# Altium integrated library FPGA Generic.IntLib: 1651 symbols (part 4 of 20)
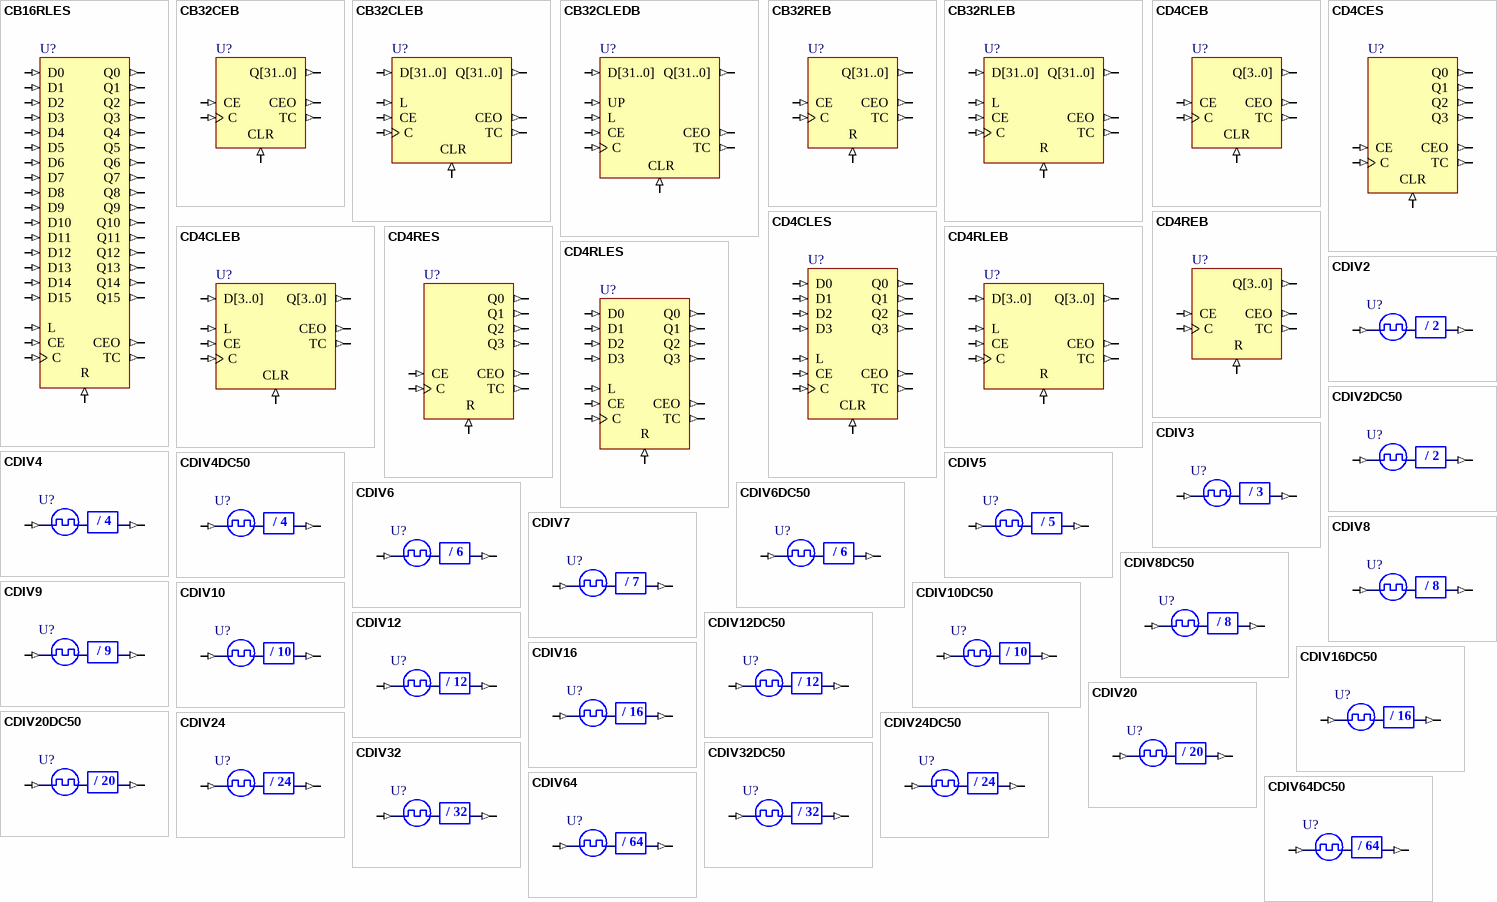
[diagram p46: symbols CB16RLES to CDIV64DC50]

## CD4RES
designator U?
Cascadable BCD Counter with Clock Enable and Synchronous Reset, Single Pin Version; XilinxEquivalent: CD4RE; ClockTrigger: Rising; Enable: High; PortSize: 4; ArchiveName: GENERIC; VHDLIB_SIM: GENERIC_LIB; Published: 29-Jan-2004; Publisher: Altium Limited; LastRevisionNo: 1.00.00; HelpURL: CR0118 FPGA Generic Library Guide.pdf#page=140; ComponentLink1URL: CR0130 FPGA Counter Resource Usage.pdf#page=53; ComponentLink1Description: Core &Resource Usage; FunctionalClass: Counter; SubClass: BCD; Reset: Synchronous; PortType: Single Pin Version
pins: C (in), CE (in), CEO (out), Q0 (out), Q1 (out), Q2 (out), Q3 (out), R (in), TC (out)

## CD4RLEB
designator U?
Loadable Cascadable BCD Counter with Clock Enable and Synchronous Reset, Bus Version; ClockTrigger: Rising; Enable: High; Loadable: True; PortSize: 4; ArchiveName: GENERIC; VHDLIB_SIM: GENERIC_LIB; Published: 29-Jan-2004; Publisher: Altium Limited; LastRevisionNo: 1.00.00; HelpURL: CR0118 FPGA Generic Library Guide.pdf#page=141; ComponentLink1URL: CR0130 FPGA Counter Resource Usage.pdf#page=54; ComponentLink1Description: Core &Resource Usage; FunctionalClass: Counter; SubClass: BCD; Reset: Synchronous; PortType: Bus Version
pins: C (in), CE (in), CEO (out), D[3..0] (in), L (in), Q[3..0] (out), R (in), TC (out)

## CD4RLES
designator U?
Loadable Cascadable BCD Counter with Clock Enable and Synchronous Reset, Single Pin Version; XilinxEquivalent: CD4RLE; ClockTrigger: Rising; Enable: High; Loadable: True; PortSize: 4; ArchiveName: GENERIC; VHDLIB_SIM: GENERIC_LIB; Published: 29-Jan-2004; Publisher: Altium Limited; LastRevisionNo: 1.00.00; HelpURL: CR0118 FPGA Generic Library Guide.pdf#page=141; ComponentLink1URL: CR0130 FPGA Counter Resource Usage.pdf#page=55; ComponentLink1Description: Core &Resource Usage; FunctionalClass: Counter; SubClass: BCD; Reset: Synchronous; PortType: Single Pin Version
pins: C (in), CE (in), CEO (out), D0 (in), D1 (in), D2 (in), D3 (in), L (in), Q0 (out), Q1 (out), Q2 (out), Q3 (out), R (in), TC (out)

## CDIV2
designator U?
Clock Divider by 2; DivisorRate: 2; ArchiveName: GENERIC; VHDLIB_SIM: GENERIC_LIB; Published: 29-Jan-2004; Publisher: Altium Limited; LastRevisionNo: 1.00.00; HelpURL: CR0118 FPGA Generic Library Guide.pdf#page=142; ComponentLink1URL: CR0127 FPGA Clock Divider Resource Usage.pdf#page=2; ComponentLink1Description: Core &Resource Usage; FunctionalClass: Clock Divider
pins: CLKDV (out), CLKIN (in)
text: / 2

## CDIV2DC50
designator U?
Clock Divider by 2 with 50% Duty Cycle Output; XilinxEquivalent: CLK_DIV2; DivisorRate: 2; DutyCycle: 50; ArchiveName: GENERIC; VHDLIB_SIM: GENERIC_LIB; Published: 29-Jan-2004; Publisher: Altium Limited; LastRevisionNo: 1.00.00; HelpURL: CR0118 FPGA Generic Library Guide.pdf#page=143; ComponentLink1URL: CR0127 FPGA Clock Divider Resource Usage.pdf#page=3; ComponentLink1Description: Core &Resource Usage; FunctionalClass: Clock Divider
pins: CLKDV (out), CLKIN (in)
text: / 2

## CDIV3
designator U?
Clock Divider by 3; DivisorRate: 3; ArchiveName: GENERIC; VHDLIB_SIM: GENERIC_LIB; Published: 29-Jan-2004; Publisher: Altium Limited; LastRevisionNo: 1.00.00; HelpURL: CR0118 FPGA Generic Library Guide.pdf#page=142; ComponentLink1URL: CR0127 FPGA Clock Divider Resource Usage.pdf#page=4; ComponentLink1Description: Core &Resource Usage; FunctionalClass: Clock Divider
pins: CLKDV (out), CLKIN (in)
text: / 3

## CDIV4
designator U?
Clock Divider by 4; DivisorRate: 4; ArchiveName: GENERIC; VHDLIB_SIM: GENERIC_LIB; Published: 29-Jan-2004; Publisher: Altium Limited; LastRevisionNo: 1.00.00; HelpURL: CR0118 FPGA Generic Library Guide.pdf#page=142; ComponentLink1URL: CR0127 FPGA Clock Divider Resource Usage.pdf#page=5; ComponentLink1Description: Core &Resource Usage; FunctionalClass: Clock Divider
pins: CLKDV (out), CLKIN (in)
text: / 4

## CDIV4DC50
designator U?
Clock Divider by 4 with 50% Duty Cycle Output; XilinxEquivalent: CLK_DIV4; DivisorRate: 4; DutyCycle: 50; ArchiveName: GENERIC; VHDLIB_SIM: GENERIC_LIB; Published: 29-Jan-2004; Publisher: Altium Limited; LastRevisionNo: 1.00.00; HelpURL: CR0118 FPGA Generic Library Guide.pdf#page=143; ComponentLink1URL: CR0127 FPGA Clock Divider Resource Usage.pdf#page=6; ComponentLink1Description: Core &Resource Usage; FunctionalClass: Clock Divider
pins: CLKDV (out), CLKIN (in)
text: / 4

## CDIV5
designator U?
Clock Divider by 5; DivisorRate: 5; ArchiveName: GENERIC; VHDLIB_SIM: GENERIC_LIB; Published: 29-Jan-2004; Publisher: Altium Limited; LastRevisionNo: 1.00.00; HelpURL: CR0118 FPGA Generic Library Guide.pdf#page=142; ComponentLink1URL: CR0127 FPGA Clock Divider Resource Usage.pdf#page=7; ComponentLink1Description: Core &Resource Usage; FunctionalClass: Clock Divider
pins: CLKDV (out), CLKIN (in)
text: / 5

## CDIV6
designator U?
Clock Divider by 6; DivisorRate: 6; ArchiveName: GENERIC; VHDLIB_SIM: GENERIC_LIB; Published: 29-Jan-2004; Publisher: Altium Limited; LastRevisionNo: 1.00.00; HelpURL: CR0118 FPGA Generic Library Guide.pdf#page=142; ComponentLink1URL: CR0127 FPGA Clock Divider Resource Usage.pdf#page=8; ComponentLink1Description: Core &Resource Usage; FunctionalClass: Clock Divider
pins: CLKDV (out), CLKIN (in)
text: / 6

## CDIV6DC50
designator U?
Clock Divider by 6 with 50% Duty Cycle Output; XilinxEquivalent: CLK_DIV6; DivisorRate: 6; DutyCycle: 50; ArchiveName: GENERIC; VHDLIB_SIM: GENERIC_LIB; Published: 29-Jan-2004; Publisher: Altium Limited; LastRevisionNo: 1.00.00; HelpURL: CR0118 FPGA Generic Library Guide.pdf#page=143; ComponentLink1URL: CR0127 FPGA Clock Divider Resource Usage.pdf#page=9; ComponentLink1Description: Core &Resource Usage; FunctionalClass: Clock Divider
pins: CLKDV (out), CLKIN (in)
text: / 6

## CDIV7
designator U?
Clock Divider by 7; DivisorRate: 7; ArchiveName: GENERIC; VHDLIB_SIM: GENERIC_LIB; Published: 29-Jan-2004; Publisher: Altium Limited; LastRevisionNo: 1.00.00; HelpURL: CR0118 FPGA Generic Library Guide.pdf#page=142; ComponentLink1URL: CR0127 FPGA Clock Divider Resource Usage.pdf#page=10; ComponentLink1Description: Core &Resource Usage; FunctionalClass: Clock Divider
pins: CLKDV (out), CLKIN (in)
text: / 7

## CDIV8
designator U?
Clock Divider by 8; DivisorRate: 8; ArchiveName: GENERIC; VHDLIB_SIM: GENERIC_LIB; Published: 29-Jan-2004; Publisher: Altium Limited; LastRevisionNo: 1.00.00; HelpURL: CR0118 FPGA Generic Library Guide.pdf#page=142; ComponentLink1URL: CR0127 FPGA Clock Divider Resource Usage.pdf#page=11; ComponentLink1Description: Core &Resource Usage; FunctionalClass: Clock Divider
pins: CLKDV (out), CLKIN (in)
text: / 8

## CDIV8DC50
designator U?
Clock Divider by 8 with 50% Duty Cycle Output; XilinxEquivalent: CLK_DIV8; DivisorRate: 8; DutyCycle: 50; ArchiveName: GENERIC; VHDLIB_SIM: GENERIC_LIB; Published: 29-Jan-2004; Publisher: Altium Limited; LastRevisionNo: 1.00.00; HelpURL: CR0118 FPGA Generic Library Guide.pdf#page=143; ComponentLink1URL: CR0127 FPGA Clock Divider Resource Usage.pdf#page=12; ComponentLink1Description: Core &Resource Usage; FunctionalClass: Clock Divider
pins: CLKDV (out), CLKIN (in)
text: / 8

## CDIV9
designator U?
Clock Divider by 9; DivisorRate: 9; ArchiveName: GENERIC; VHDLIB_SIM: GENERIC_LIB; Published: 29-Jan-2004; Publisher: Altium Limited; LastRevisionNo: 1.00.00; HelpURL: CR0118 FPGA Generic Library Guide.pdf#page=142; ComponentLink1URL: CR0127 FPGA Clock Divider Resource Usage.pdf#page=13; ComponentLink1Description: Core &Resource Usage; FunctionalClass: Clock Divider
pins: CLKDV (out), CLKIN (in)
text: / 9

## CDIV10
designator U?
Clock Divider by 10; DivisorRate: 10; ArchiveName: GENERIC; VHDLIB_SIM: GENERIC_LIB; Published: 29-Jan-2004; Publisher: Altium Limited; LastRevisionNo: 1.00.00; HelpURL: CR0118 FPGA Generic Library Guide.pdf#page=142; ComponentLink1URL: CR0127 FPGA Clock Divider Resource Usage.pdf#page=14; ComponentLink1Description: Core &Resource Usage; FunctionalClass: Clock Divider
pins: CLKDV (out), CLKIN (in)
text: / 10

## CDIV10DC50
designator U?
Clock Divider by 10 with 50% Duty Cycle Output; XilinxEquivalent: CLK_DIV10; DivisorRate: 10; DutyCycle: 50; ArchiveName: GENERIC; VHDLIB_SIM: GENERIC_LIB; Published: 29-Jan-2004; Publisher: Altium Limited; LastRevisionNo: 1.00.00; HelpURL: CR0118 FPGA Generic Library Guide.pdf#page=143; ComponentLink1URL: CR0127 FPGA Clock Divider Resource Usage.pdf#page=15; ComponentLink1Description: Core &Resource Usage; FunctionalClass: Clock Divider
pins: CLKDV (out), CLKIN (in)
text: / 10

## CDIV12
designator U?
Clock Divider by 12; DivisorRate: 12; ArchiveName: GENERIC; VHDLIB_SIM: GENERIC_LIB; Published: 29-Jan-2004; Publisher: Altium Limited; LastRevisionNo: 1.00.00; HelpURL: CR0118 FPGA Generic Library Guide.pdf#page=142; ComponentLink1URL: CR0127 FPGA Clock Divider Resource Usage.pdf#page=16; ComponentLink1Description: Core &Resource Usage; FunctionalClass: Clock Divider
pins: CLKDV (out), CLKIN (in)
text: / 12

## CDIV12DC50
designator U?
Clock Divider by 12 with 50% Duty Cycle Output; XilinxEquivalent: CLK_DIV12; DivisorRate: 12; DutyCycle: 50; ArchiveName: GENERIC; VHDLIB_SIM: GENERIC_LIB; Published: 29-Jan-2004; Publisher: Altium Limited; LastRevisionNo: 1.00.00; HelpURL: CR0118 FPGA Generic Library Guide.pdf#page=143; ComponentLink1URL: CR0127 FPGA Clock Divider Resource Usage.pdf#page=17; ComponentLink1Description: Core &Resource Usage; FunctionalClass: Clock Divider
pins: CLKDV (out), CLKIN (in)
text: / 12

## CDIV16
designator U?
Clock Divider by 16; DivisorRate: 16; ArchiveName: GENERIC; VHDLIB_SIM: GENERIC_LIB; Published: 29-Jan-2004; Publisher: Altium Limited; LastRevisionNo: 1.00.00; HelpURL: CR0118 FPGA Generic Library Guide.pdf#page=142; ComponentLink1URL: CR0127 FPGA Clock Divider Resource Usage.pdf#page=18; ComponentLink1Description: Core &Resource Usage; FunctionalClass: Clock Divider
pins: CLKDV (out), CLKIN (in)
text: / 16

## CDIV16DC50
designator U?
Clock Divider by 16 with 50% Duty Cycle Output; XilinxEquivalent: CLK_DIV16; DivisorRate: 16; DutyCycle: 50; ArchiveName: GENERIC; VHDLIB_SIM: GENERIC_LIB; Published: 29-Jan-2004; Publisher: Altium Limited; LastRevisionNo: 1.00.00; HelpURL: CR0118 FPGA Generic Library Guide.pdf#page=143; ComponentLink1URL: CR0127 FPGA Clock Divider Resource Usage.pdf#page=19; ComponentLink1Description: Core &Resource Usage; FunctionalClass: Clock Divider
pins: CLKDV (out), CLKIN (in)
text: / 16

## CDIV20
designator U?
Clock Divider by 20; DivisorRate: 20; ArchiveName: GENERIC; VHDLIB_SIM: GENERIC_LIB; Published: 29-Jan-2004; Publisher: Altium Limited; LastRevisionNo: 1.00.00; HelpURL: CR0118 FPGA Generic Library Guide.pdf#page=142; ComponentLink1URL: CR0127 FPGA Clock Divider Resource Usage.pdf#page=20; ComponentLink1Description: Core &Resource Usage; FunctionalClass: Clock Divider
pins: CLKDV (out), CLKIN (in)
text: / 20

## CDIV20DC50
designator U?
Clock Divider by 20 with 50% Duty Cycle Output; DivisorRate: 20; DutyCycle: 50; ArchiveName: GENERIC; VHDLIB_SIM: GENERIC_LIB; Published: 29-Jan-2004; Publisher: Altium Limited; LastRevisionNo: 1.00.00; HelpURL: CR0118 FPGA Generic Library Guide.pdf#page=143; ComponentLink1URL: CR0127 FPGA Clock Divider Resource Usage.pdf#page=21; ComponentLink1Description: Core &Resource Usage; FunctionalClass: Clock Divider
pins: CLKDV (out), CLKIN (in)
text: / 20

## CDIV24
designator U?
Clock Divider by 24; DivisorRate: 24; ArchiveName: GENERIC; VHDLIB_SIM: GENERIC_LIB; Published: 29-Jan-2004; Publisher: Altium Limited; LastRevisionNo: 1.00.00; HelpURL: CR0118 FPGA Generic Library Guide.pdf#page=142; ComponentLink1URL: CR0127 FPGA Clock Divider Resource Usage.pdf#page=22; ComponentLink1Description: Core &Resource Usage; FunctionalClass: Clock Divider
pins: CLKDV (out), CLKIN (in)
text: / 24

## CDIV24DC50
designator U?
Clock Divider by 24 with 50% Duty Cycle Output; DivisorRate: 24; DutyCycle: 50; ArchiveName: GENERIC; VHDLIB_SIM: GENERIC_LIB; Published: 29-Jan-2004; Publisher: Altium Limited; LastRevisionNo: 1.00.00; HelpURL: CR0118 FPGA Generic Library Guide.pdf#page=143; ComponentLink1URL: CR0127 FPGA Clock Divider Resource Usage.pdf#page=23; ComponentLink1Description: Core &Resource Usage; FunctionalClass: Clock Divider
pins: CLKDV (out), CLKIN (in)
text: / 24

## CDIV32
designator U?
Clock Divider by 32; DivisorRate: 32; ArchiveName: GENERIC; VHDLIB_SIM: GENERIC_LIB; Published: 29-Jan-2004; Publisher: Altium Limited; LastRevisionNo: 1.00.00; HelpURL: CR0118 FPGA Generic Library Guide.pdf#page=142; ComponentLink1URL: CR0127 FPGA Clock Divider Resource Usage.pdf#page=24; ComponentLink1Description: Core &Resource Usage; FunctionalClass: Clock Divider
pins: CLKDV (out), CLKIN (in)
text: / 32

## CDIV32DC50
designator U?
Clock Divider by 32 with 50% Duty Cycle Output; DivisorRate: 32; DutyCycle: 50; ArchiveName: GENERIC; VHDLIB_SIM: GENERIC_LIB; Published: 29-Jan-2004; Publisher: Altium Limited; LastRevisionNo: 1.00.00; HelpURL: CR0118 FPGA Generic Library Guide.pdf#page=143; ComponentLink1URL: CR0127 FPGA Clock Divider Resource Usage.pdf#page=25; ComponentLink1Description: Core &Resource Usage; FunctionalClass: Clock Divider
pins: CLKDV (out), CLKIN (in)
text: / 32

## CDIV64
designator U?
Clock Divider by 64; DivisorRate: 64; ArchiveName: GENERIC; VHDLIB_SIM: GENERIC_LIB; Published: 29-Jan-2004; Publisher: Altium Limited; LastRevisionNo: 1.00.00; HelpURL: CR0118 FPGA Generic Library Guide.pdf#page=142; ComponentLink1URL: CR0127 FPGA Clock Divider Resource Usage.pdf#page=26; ComponentLink1Description: Core &Resource Usage; FunctionalClass: Clock Divider
pins: CLKDV (out), CLKIN (in)
text: / 64

## CDIV64DC50
designator U?
Clock Divider by 64 with 50% Duty Cycle Output; DivisorRate: 64; DutyCycle: 50; ArchiveName: GENERIC; VHDLIB_SIM: GENERIC_LIB; Published: 29-Jan-2004; Publisher: Altium Limited; LastRevisionNo: 1.00.00; HelpURL: CR0118 FPGA Generic Library Guide.pdf#page=143; ComponentLink1URL: CR0127 FPGA Clock Divider Resource Usage.pdf#page=27; ComponentLink1Description: Core &Resource Usage; FunctionalClass: Clock Divider
pins: CLKDV (out), CLKIN (in)
text: / 64

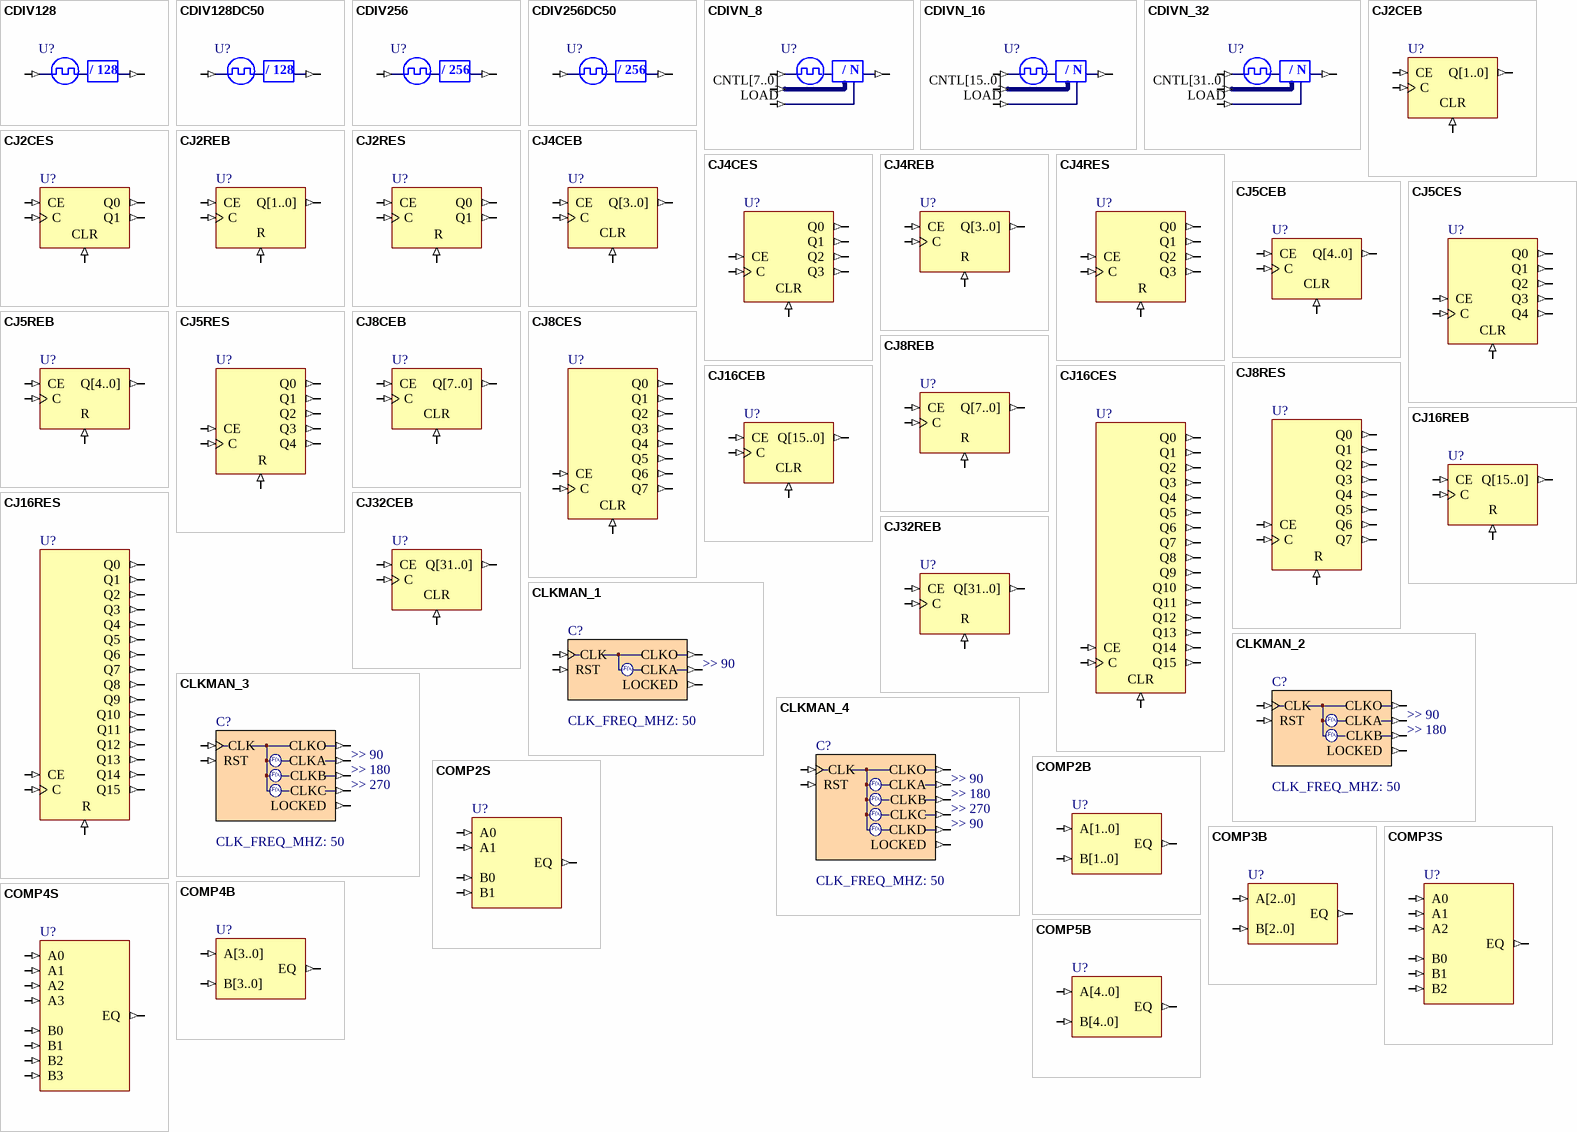
[diagram p7: symbols CDIV128 to COMP5B]

## CDIV128
designator U?
Clock Divider by 128; DivisorRate: 128; ArchiveName: GENERIC; VHDLIB_SIM: GENERIC_LIB; Published: 29-Jan-2004; Publisher: Altium Limited; LastRevisionNo: 1.00.00; HelpURL: CR0118 FPGA Generic Library Guide.pdf#page=142; ComponentLink1URL: CR0127 FPGA Clock Divider Resource Usage.pdf#page=28; ComponentLink1Description: Core &Resource Usage; FunctionalClass: Clock Divider
pins: CLKDV (out), CLKIN (in)
text: / 128

## CDIV128DC50
designator U?
Clock Divider by 128 with 50% Duty Cycle Output; DivisorRate: 128; DutyCycle: 50; ArchiveName: GENERIC; VHDLIB_SIM: GENERIC_LIB; Published: 29-Jan-2004; Publisher: Altium Limited; LastRevisionNo: 1.00.00; HelpURL: CR0118 FPGA Generic Library Guide.pdf#page=143; ComponentLink1URL: CR0127 FPGA Clock Divider Resource Usage.pdf#page=29; ComponentLink1Description: Core &Resource Usage; FunctionalClass: Clock Divider
pins: CLKDV (out), CLKIN (in)
text: / 128

## CDIV256
designator U?
Clock Divider by 256; DivisorRate: 256; ArchiveName: GENERIC; VHDLIB_SIM: GENERIC_LIB; Published: 29-Jan-2004; Publisher: Altium Limited; LastRevisionNo: 1.00.00; HelpURL: CR0118 FPGA Generic Library Guide.pdf#page=142; ComponentLink1URL: CR0127 FPGA Clock Divider Resource Usage.pdf#page=30; ComponentLink1Description: Core &Resource Usage; FunctionalClass: Clock Divider
pins: CLKDV (out), CLKIN (in)
text: / 256

## CDIV256DC50
designator U?
Clock Divider by 256 with 50% Duty Cycle Output; DivisorRate: 256; DutyCycle: 50; ArchiveName: GENERIC; VHDLIB_SIM: GENERIC_LIB; Published: 29-Jan-2004; Publisher: Altium Limited; LastRevisionNo: 1.00.00; HelpURL: CR0118 FPGA Generic Library Guide.pdf#page=143; ComponentLink1URL: CR0127 FPGA Clock Divider Resource Usage.pdf#page=31; ComponentLink1Description: Core &Resource Usage; FunctionalClass: Clock Divider
pins: CLKDV (out), CLKIN (in)
text: / 256

## CDIVN_8
designator U?
8-Bit Programmable Clock Divider; PortSize: 8; ArchiveName: GENERIC; VHDLIB_SIM: GENERIC_LIB; Published: 29-Jan-2004; Publisher: Altium Limited; LastRevisionNo: 1.00.00; HelpURL: CR0118 FPGA Generic Library Guide.pdf#page=144; ComponentLink1URL: CR0127 FPGA Clock Divider Resource Usage.pdf#page=32; ComponentLink1Description: Core &Resource Usage; FunctionalClass: Clock Divider; DivisorRate: Programmable
pins: CLKDV (out), CLKIN (in), CNTL[7..0] (in), LOAD (in)
text: / N

## CDIVN_16
designator U?
16-Bit Programmable Clock Divider; PortSize: 16; ArchiveName: GENERIC; VHDLIB_SIM: GENERIC_LIB; Published: 29-Jan-2004; Publisher: Altium Limited; LastRevisionNo: 1.00.00; HelpURL: CR0118 FPGA Generic Library Guide.pdf#page=144; ComponentLink1URL: CR0127 FPGA Clock Divider Resource Usage.pdf#page=33; ComponentLink1Description: Core &Resource Usage; FunctionalClass: Clock Divider; DivisorRate: Programmable
pins: CLKDV (out), CLKIN (in), CNTL[15..0] (in), LOAD (in)
text: / N

## CDIVN_32
designator U?
32-Bit Programmable Clock Divider; PortSize: 32; ArchiveName: GENERIC; VHDLIB_SIM: GENERIC_LIB; Published: 29-Jan-2004; Publisher: Altium Limited; LastRevisionNo: 1.00.00; HelpURL: CR0118 FPGA Generic Library Guide.pdf#page=144; ComponentLink1URL: CR0127 FPGA Clock Divider Resource Usage.pdf#page=34; ComponentLink1Description: Core &Resource Usage; FunctionalClass: Clock Divider; DivisorRate: Programmable
pins: CLKDV (out), CLKIN (in), CNTL[31..0] (in), LOAD (in)
text: / N

## CJ2CEB
designator U?
2-Bit Johnson Counter with Clock Enable and Asynchronous Clear, Bus Version; ClockTrigger: Rising; Enable: High; PortSize: 2; ArchiveName: GENERIC; VHDLIB_SIM: GENERIC_LIB; Published: 29-Jan-2004; Publisher: Altium Limited; LastRevisionNo: 1.00.00; HelpURL: CR0118 FPGA Generic Library Guide.pdf#page=145; ComponentLink1URL: CR0130 FPGA Counter Resource Usage.pdf#page=56; ComponentLink1Description: Core &Resource Usage; FunctionalClass: Counter; SubClass: Johnson; Reset: Asynchronous; PortType: Bus Version
pins: C (in), CE (in), CLR (in), Q[1..0] (out)

## CJ2CES
designator U?
2-Bit Johnson Counter with Clock Enable and Asynchronous Clear, Single Pin Version; ClockTrigger: Rising; Enable: High; PortSize: 2; ArchiveName: GENERIC; VHDLIB_SIM: GENERIC_LIB; Published: 29-Jan-2004; Publisher: Altium Limited; LastRevisionNo: 1.00.00; HelpURL: CR0118 FPGA Generic Library Guide.pdf#page=145; ComponentLink1URL: CR0130 FPGA Counter Resource Usage.pdf#page=57; ComponentLink1Description: Core &Resource Usage; FunctionalClass: Counter; SubClass: Johnson; Reset: Asynchronous; PortType: Single Pin Version
pins: C (in), CE (in), CLR (in), Q0 (out), Q1 (out)

## CJ2REB
designator U?
2-Bit Johnson Counter with Clock Enable and Synchronous Reset, Bus Version; ClockTrigger: Rising; Enable: High; PortSize: 2; ArchiveName: GENERIC; VHDLIB_SIM: GENERIC_LIB; Published: 29-Jan-2004; Publisher: Altium Limited; LastRevisionNo: 1.00.00; HelpURL: CR0118 FPGA Generic Library Guide.pdf#page=147; ComponentLink1URL: CR0130 FPGA Counter Resource Usage.pdf#page=58; ComponentLink1Description: Core &Resource Usage; FunctionalClass: Counter; SubClass: Johnson; Reset: Synchronous; PortType: Bus Version
pins: C (in), CE (in), Q[1..0] (out), R (in)

## CJ2RES
designator U?
2-Bit Johnson Counter with Clock Enable and Synchronous Reset, Single Pin Version; ClockTrigger: Rising; Enable: High; PortSize: 2; ArchiveName: GENERIC; VHDLIB_SIM: GENERIC_LIB; Published: 29-Jan-2004; Publisher: Altium Limited; LastRevisionNo: 1.00.00; HelpURL: CR0118 FPGA Generic Library Guide.pdf#page=147; ComponentLink1URL: CR0130 FPGA Counter Resource Usage.pdf#page=59; ComponentLink1Description: Core &Resource Usage; FunctionalClass: Counter; SubClass: Johnson; Reset: Synchronous; PortType: Single Pin Version
pins: C (in), CE (in), Q0 (out), Q1 (out), R (in)

## CJ4CEB
designator U?
4-Bit Johnson Counter with Clock Enable and Asynchronous Clear, Bus Version; ClockTrigger: Rising; Enable: High; PortSize: 4; ArchiveName: GENERIC; VHDLIB_SIM: GENERIC_LIB; Published: 29-Jan-2004; Publisher: Altium Limited; LastRevisionNo: 1.00.00; HelpURL: CR0118 FPGA Generic Library Guide.pdf#page=145; ComponentLink1URL: CR0130 FPGA Counter Resource Usage.pdf#page=60; ComponentLink1Description: Core &Resource Usage; FunctionalClass: Counter; SubClass: Johnson; Reset: Asynchronous; PortType: Bus Version
pins: C (in), CE (in), CLR (in), Q[3..0] (out)

## CJ4CES
designator U?
4-Bit Johnson Counter with Clock Enable and Asynchronous Clear, Single Pin Version; XilinxEquivalent: CJ4CE; ClockTrigger: Rising; Enable: High; PortSize: 4; ArchiveName: GENERIC; VHDLIB_SIM: GENERIC_LIB; Published: 29-Jan-2004; Publisher: Altium Limited; LastRevisionNo: 1.00.00; HelpURL: CR0118 FPGA Generic Library Guide.pdf#page=145; ComponentLink1URL: CR0130 FPGA Counter Resource Usage.pdf#page=61; ComponentLink1Description: Core &Resource Usage; FunctionalClass: Counter; SubClass: Johnson; Reset: Asynchronous; PortType: Single Pin Version
pins: C (in), CE (in), CLR (in), Q0 (out), Q1 (out), Q2 (out), Q3 (out)

## CJ4REB
designator U?
4-Bit Johnson Counter with Clock Enable and Synchronous Reset, Bus Version; ClockTrigger: Rising; Enable: High; PortSize: 4; ArchiveName: GENERIC; VHDLIB_SIM: GENERIC_LIB; Published: 29-Jan-2004; Publisher: Altium Limited; LastRevisionNo: 1.00.00; HelpURL: CR0118 FPGA Generic Library Guide.pdf#page=147; ComponentLink1URL: CR0130 FPGA Counter Resource Usage.pdf#page=62; ComponentLink1Description: Core &Resource Usage; FunctionalClass: Counter; SubClass: Johnson; Reset: Synchronous; PortType: Bus Version
pins: C (in), CE (in), Q[3..0] (out), R (in)

## CJ4RES
designator U?
4-Bit Johnson Counter with Clock Enable and Synchronous Reset, Single Pin Version; XilinxEquivalent: CJ4RE; ClockTrigger: Rising; Enable: High; PortSize: 4; ArchiveName: GENERIC; VHDLIB_SIM: GENERIC_LIB; Published: 29-Jan-2004; Publisher: Altium Limited; LastRevisionNo: 1.00.00; HelpURL: CR0118 FPGA Generic Library Guide.pdf#page=147; ComponentLink1URL: CR0130 FPGA Counter Resource Usage.pdf#page=63; ComponentLink1Description: Core &Resource Usage; FunctionalClass: Counter; SubClass: Johnson; Reset: Synchronous; PortType: Single Pin Version
pins: C (in), CE (in), Q0 (out), Q1 (out), Q2 (out), Q3 (out), R (in)

## CJ5CEB
designator U?
5-Bit Johnson Counter with Clock Enable and Asynchronous Clear, Bus Version; ClockTrigger: Rising; Enable: High; PortSize: 5; ArchiveName: GENERIC; VHDLIB_SIM: GENERIC_LIB; Published: 29-Jan-2004; Publisher: Altium Limited; LastRevisionNo: 1.00.00; HelpURL: CR0118 FPGA Generic Library Guide.pdf#page=145; ComponentLink1URL: CR0130 FPGA Counter Resource Usage.pdf#page=64; ComponentLink1Description: Core &Resource Usage; FunctionalClass: Counter; SubClass: Johnson; Reset: Asynchronous; PortType: Bus Version
pins: C (in), CE (in), CLR (in), Q[4..0] (out)

## CJ5CES
designator U?
5-Bit Johnson Counter with Clock Enable and Asynchronous Clear, Single Pin Version; XilinxEquivalent: CJ5CE; ClockTrigger: Rising; Enable: High; PortSize: 5; ArchiveName: GENERIC; VHDLIB_SIM: GENERIC_LIB; Published: 29-Jan-2004; Publisher: Altium Limited; LastRevisionNo: 1.00.00; HelpURL: CR0118 FPGA Generic Library Guide.pdf#page=145; ComponentLink1URL: CR0130 FPGA Counter Resource Usage.pdf#page=65; ComponentLink1Description: Core &Resource Usage; FunctionalClass: Counter; SubClass: Johnson; Reset: Asynchronous; PortType: Single Pin Version
pins: C (in), CE (in), CLR (in), Q0 (out), Q1 (out), Q2 (out), Q3 (out), Q4 (out)

## CJ5REB
designator U?
5-Bit Johnson Counters with Clock Enable and Synchronous Reset, Bus Version; ClockTrigger: Rising; Enable: High; PortSize: 5; ArchiveName: GENERIC; VHDLIB_SIM: GENERIC_LIB; Published: 29-Jan-2004; Publisher: Altium Limited; LastRevisionNo: 1.00.00; HelpURL: CR0118 FPGA Generic Library Guide.pdf#page=147; ComponentLink1URL: CR0130 FPGA Counter Resource Usage.pdf#page=66; ComponentLink1Description: Core &Resource Usage; FunctionalClass: Counter; SubClass: Johnson; Reset: Synchronous; PortType: Bus Version
pins: C (in), CE (in), Q[4..0] (out), R (in)

## CJ5RES
designator U?
5-Bit Johnson Counters with Clock Enable and Synchronous Reset, Single Pin Version; XilinxEquivalent: CJ5RE; ClockTrigger: Rising; Enable: High; PortSize: 5; ArchiveName: GENERIC; VHDLIB_SIM: GENERIC_LIB; Published: 29-Jan-2004; Publisher: Altium Limited; LastRevisionNo: 1.00.00; HelpURL: CR0118 FPGA Generic Library Guide.pdf#page=147; ComponentLink1URL: CR0130 FPGA Counter Resource Usage.pdf#page=67; ComponentLink1Description: Core &Resource Usage; FunctionalClass: Counter; SubClass: Johnson; Reset: Synchronous; PortType: Single Pin Version
pins: C (in), CE (in), Q0 (out), Q1 (out), Q2 (out), Q3 (out), Q4 (out), R (in)

## CJ8CEB
designator U?
8-Bit Johnson Counter with Clock Enable and Asynchronous Clear, Bus Version; XilinxEquivalent: CJ8CE; ClockTrigger: Rising; Enable: High; PortSize: 8; ArchiveName: GENERIC; VHDLIB_SIM: GENERIC_LIB; Published: 29-Jan-2004; Publisher: Altium Limited; LastRevisionNo: 1.00.00; HelpURL: CR0118 FPGA Generic Library Guide.pdf#page=145; ComponentLink1URL: CR0130 FPGA Counter Resource Usage.pdf#page=68; ComponentLink1Description: Core &Resource Usage; FunctionalClass: Counter; SubClass: Johnson; Reset: Asynchronous; PortType: Bus Version
pins: C (in), CE (in), CLR (in), Q[7..0] (out)

## CJ8CES
designator U?
8-Bit Johnson Counter with Clock Enable and Asynchronous Clear, Single Pin Version; ClockTrigger: Rising; Enable: High; PortSize: 8; ArchiveName: GENERIC; VHDLIB_SIM: GENERIC_LIB; Published: 29-Jan-2004; Publisher: Altium Limited; LastRevisionNo: 1.00.00; HelpURL: CR0118 FPGA Generic Library Guide.pdf#page=145; ComponentLink1URL: CR0130 FPGA Counter Resource Usage.pdf#page=69; ComponentLink1Description: Core &Resource Usage; FunctionalClass: Counter; SubClass: Johnson; Reset: Asynchronous; PortType: Single Pin Version
pins: C (in), CE (in), CLR (in), Q0 (out), Q1 (out), Q2 (out), Q3 (out), Q4 (out), Q5 (out), Q6 (out), Q7 (out)

## CJ8REB
designator U?
8-Bit Johnson Counter with Clock Enable and Synchronous Reset, Bus Version; XilinxEquivalent: CJ8RE; ClockTrigger: Rising; Enable: High; PortSize: 8; ArchiveName: GENERIC; VHDLIB_SIM: GENERIC_LIB; Published: 29-Jan-2004; Publisher: Altium Limited; LastRevisionNo: 1.00.00; HelpURL: CR0118 FPGA Generic Library Guide.pdf#page=147; ComponentLink1URL: CR0130 FPGA Counter Resource Usage.pdf#page=70; ComponentLink1Description: Core &Resource Usage; FunctionalClass: Counter; SubClass: Johnson; Reset: Synchronous; PortType: Bus Version
pins: C (in), CE (in), Q[7..0] (out), R (in)

## CJ8RES
designator U?
8-Bit Johnson Counter with Clock Enable and Synchronous Reset, Single Pin Version; ClockTrigger: Rising; Enable: High; PortSize: 8; ArchiveName: GENERIC; VHDLIB_SIM: GENERIC_LIB; Published: 29-Jan-2004; Publisher: Altium Limited; LastRevisionNo: 1.00.00; HelpURL: CR0118 FPGA Generic Library Guide.pdf#page=147; ComponentLink1URL: CR0130 FPGA Counter Resource Usage.pdf#page=71; ComponentLink1Description: Core &Resource Usage; FunctionalClass: Counter; SubClass: Johnson; Reset: Synchronous; PortType: Single Pin Version
pins: C (in), CE (in), Q0 (out), Q1 (out), Q2 (out), Q3 (out), Q4 (out), Q5 (out), Q6 (out), Q7 (out), R (in)

## CJ16CEB
designator U?
16-Bit Johnson Counter with Clock Enable and Asynchronous Clear, Bus Version; ClockTrigger: Rising; Enable: High; PortSize: 16; ArchiveName: GENERIC; VHDLIB_SIM: GENERIC_LIB; Published: 29-Jan-2004; Publisher: Altium Limited; LastRevisionNo: 1.00.00; HelpURL: CR0118 FPGA Generic Library Guide.pdf#page=145; ComponentLink1URL: CR0130 FPGA Counter Resource Usage.pdf#page=72; ComponentLink1Description: Core &Resource Usage; FunctionalClass: Counter; SubClass: Johnson; Reset: Asynchronous; PortType: Bus Version
pins: C (in), CE (in), CLR (in), Q[15..0] (out)

## CJ16CES
designator U?
16-Bit Johnson Counter with Clock Enable and Asynchronous Clear, Single Pin Version; ClockTrigger: Rising; Enable: High; PortSize: 16; ArchiveName: GENERIC; VHDLIB_SIM: GENERIC_LIB; Published: 29-Jan-2004; Publisher: Altium Limited; LastRevisionNo: 1.00.00; HelpURL: CR0118 FPGA Generic Library Guide.pdf#page=145; ComponentLink1URL: CR0130 FPGA Counter Resource Usage.pdf#page=73; ComponentLink1Description: Core &Resource Usage; FunctionalClass: Counter; SubClass: Johnson; Reset: Asynchronous; PortType: Single Pin Version
pins: C (in), CE (in), CLR (in), Q0 (out), Q1 (out), Q2 (out), Q3 (out), Q4 (out), Q5 (out), Q6 (out), Q7 (out), Q8 (out), Q9 (out), Q10 (out), Q11 (out), Q12 (out), Q13 (out), Q14 (out), Q15 (out)

## CJ16REB
designator U?
16-Bit Johnson Counter with Clock Enable and Synchronous Reset, Bus Version; ClockTrigger: Rising; Enable: High; PortSize: 16; ArchiveName: GENERIC; VHDLIB_SIM: GENERIC_LIB; Published: 29-Jan-2004; Publisher: Altium Limited; LastRevisionNo: 1.00.00; HelpURL: CR0118 FPGA Generic Library Guide.pdf#page=147; ComponentLink1URL: CR0130 FPGA Counter Resource Usage.pdf#page=74; ComponentLink1Description: Core &Resource Usage; FunctionalClass: Counter; SubClass: Johnson; Reset: Synchronous; PortType: Bus Version
pins: C (in), CE (in), Q[15..0] (out), R (in)

## CJ16RES
designator U?
16-Bit Johnson Counter with Clock Enable and Synchronous Reset, Single Pin Version; ClockTrigger: Rising; Enable: High; PortSize: 16; ArchiveName: GENERIC; VHDLIB_SIM: GENERIC_LIB; Published: 29-Jan-2004; Publisher: Altium Limited; LastRevisionNo: 1.00.00; HelpURL: CR0118 FPGA Generic Library Guide.pdf#page=147; ComponentLink1URL: CR0130 FPGA Counter Resource Usage.pdf#page=75; ComponentLink1Description: Core &Resource Usage; FunctionalClass: Counter; SubClass: Johnson; Reset: Synchronous; PortType: Single Pin Version
pins: C (in), CE (in), Q0 (out), Q1 (out), Q2 (out), Q3 (out), Q4 (out), Q5 (out), Q6 (out), Q7 (out), Q8 (out), Q9 (out), Q10 (out), Q11 (out), Q12 (out), Q13 (out), Q14 (out), Q15 (out), R (in)

## CJ32CEB
designator U?
32-Bit Johnson Counter with Clock Enable and Asynchronous Clear, Bus Version; ClockTrigger: Rising; Enable: High; PortSize: 32; ArchiveName: GENERIC; VHDLIB_SIM: GENERIC_LIB; Published: 31-May-2004; Publisher: Altium Limited; LastRevisionNo: 1.00.00; HelpURL: CR0118 FPGA Generic Library Guide.pdf#page=145; ComponentLink1URL: CR0130 FPGA Counter Resource Usage.pdf#page=76; ComponentLink1Description: Core &Resource Usage; FunctionalClass: Counter; SubClass: Johnson; Reset: Asynchronous; PortType: Bus Version
pins: C (in), CE (in), CLR (in), Q[31..0] (out)

## CJ32REB
designator U?
32-Bit Johnson Counter with Clock Enable and Synchronous Reset, Bus Version; ClockTrigger: Rising; Enable: High; PortSize: 32; ArchiveName: GENERIC; VHDLIB_SIM: GENERIC_LIB; Published: 31-May-2004; Publisher: Altium Limited; LastRevisionNo: 1.00.00; HelpURL: CR0118 FPGA Generic Library Guide.pdf#page=147; ComponentLink1URL: CR0130 FPGA Counter Resource Usage.pdf#page=77; ComponentLink1Description: Core &Resource Usage; FunctionalClass: Counter; SubClass: Johnson; Reset: Synchronous; PortType: Bus Version
pins: C (in), CE (in), Q[31..0] (out), R (in)

## CLKMAN_1
designator C?  CLK_FREQ_MHZ: 50  ClkA_Operation: >> 90
Single Operational Output Clock Manager; Clk_Count: 1; Published: 5-Jul-2004; Publisher: Altium Limited; LastRevisionNo: 1.00.00; Nexus_Core: ClockManager; HelpURL: CR0118 FPGA Generic Library Guide.pdf#page=149; ComponentLink1URL: CR0128 FPGA Clock Manager Resource Usage.pdf#page=2; ComponentLink1Description: Core &Resource Usage; FunctionalClass: Clock Manager; PortSize: 1
pins: CLK (in), CLKA (out), CLKO (out), LOCKED (out), RST (in)
text: F(x)

## CLKMAN_2
designator C?  CLK_FREQ_MHZ: 50  ClkA_Operation: >> 90  ClkB_Operation: >> 180
Dual Operational Output Clock Manager; Clk_Count: 2; Published: 5-Jul-2004; Publisher: Altium Limited; LastRevisionNo: 1.00.00; Nexus_Core: ClockManager; HelpURL: CR0118 FPGA Generic Library Guide.pdf#page=149; ComponentLink1URL: CR0128 FPGA Clock Manager Resource Usage.pdf#page=3; ComponentLink1Description: Core &Resource Usage; FunctionalClass: Clock Manager; PortSize: 2
pins: CLK (in), CLKA (out), CLKB (out), CLKO (out), LOCKED (out), RST (in)
text: F(x)

## CLKMAN_3
designator C?  CLK_FREQ_MHZ: 50  ClkA_Operation: >> 90  ClkB_Operation: >> 180  ClkC_Operation: >> 270
Multiple Operational Output Clock Manager; Clk_Count: 3; Published: 5-Jul-2004; Publisher: Altium Limited; LastRevisionNo: 1.00.00; Nexus_Core: ClockManager; HelpURL: CR0118 FPGA Generic Library Guide.pdf#page=149; ComponentLink1URL: CR0128 FPGA Clock Manager Resource Usage.pdf#page=4; ComponentLink1Description: Core &Resource Usage; FunctionalClass: Clock Manager; PortSize: 3
pins: CLK (in), CLKA (out), CLKB (out), CLKC (out), CLKO (out), LOCKED (out), RST (in)
text: F(x)

## CLKMAN_4
designator C?  CLK_FREQ_MHZ: 50  ClkA_Operation: >> 90  ClkB_Operation: >> 180  ClkC_Operation: >> 270
Multiple Operational Output Clock Manager; Clk_Count: 4; Published: 5-Jul-2004; Publisher: Altium Limited; LastRevisionNo: 1.00.00; Nexus_Core: ClockManager; HelpURL: CR0118 FPGA Generic Library Guide.pdf#page=149; ComponentLink1URL: CR0128 FPGA Clock Manager Resource Usage.pdf#page=5; ComponentLink1Description: Core &Resource Usage; FunctionalClass: Clock Manager; PortSize: 4; ClkD_Operation: >> 90
pins: CLK (in), CLKA (out), CLKB (out), CLKC (out), CLKD (out), CLKO (out), LOCKED (out), RST (in)
text: F(x)

## COMP2B
designator U?
2-Bit Identity Comparator, Bus Version; SubClass: COMP; PortSize: 2; ArchiveName: GENERIC; VHDLIB_SIM: GENERIC_LIB; Published: 29-Jan-2004; Publisher: Altium Limited; LastRevisionNo: 1.00.00; HelpURL: CR0118 FPGA Generic Library Guide.pdf#page=151; ComponentLink1URL: CR0129 FPGA Comparator Resource Usage.pdf#page=2; ComponentLink1Description: Core &Resource Usage; FunctionalClass: Comparator; PortStyle: Bus Version
pins: A[1..0] (in), B[1..0] (in), EQ (out)

## COMP2S
designator U?
2-Bit Identity Comparator, Single Pin Version; XilinxEquivalent: COMP2; SubClass: COMP; PortSize: 2; ArchiveName: GENERIC; VHDLIB_SIM: GENERIC_LIB; Published: 29-Jan-2004; Publisher: Altium Limited; LastRevisionNo: 1.00.00; HelpURL: CR0118 FPGA Generic Library Guide.pdf#page=151; ComponentLink1URL: CR0129 FPGA Comparator Resource Usage.pdf#page=3; ComponentLink1Description: Core &Resource Usage; FunctionalClass: Comparator; PortStyle: Single Pin Version
pins: A0 (in), A1 (in), B0 (in), B1 (in), EQ (out)

## COMP3B
designator U?
3-Bit Identity Comparator, Bus Version; SubClass: COMP; PortSize: 3; ArchiveName: GENERIC; VHDLIB_SIM: GENERIC_LIB; Published: 29-Jan-2004; Publisher: Altium Limited; LastRevisionNo: 1.00.00; HelpURL: CR0118 FPGA Generic Library Guide.pdf#page=151; ComponentLink1URL: CR0129 FPGA Comparator Resource Usage.pdf#page=4; ComponentLink1Description: Core &Resource Usage; FunctionalClass: Comparator; PortStyle: Bus Version
pins: A[2..0] (in), B[2..0] (in), EQ (out)

## COMP3S
designator U?
3-Bit Identity Comparator, Single Pin Version; SubClass: COMP; PortSize: 3; ArchiveName: GENERIC; VHDLIB_SIM: GENERIC_LIB; Published: 29-Jan-2004; Publisher: Altium Limited; LastRevisionNo: 1.00.00; HelpURL: CR0118 FPGA Generic Library Guide.pdf#page=151; ComponentLink1URL: CR0129 FPGA Comparator Resource Usage.pdf#page=5; ComponentLink1Description: Core &Resource Usage; FunctionalClass: Comparator; PortStyle: Single Pin Version
pins: A0 (in), A1 (in), A2 (in), B0 (in), B1 (in), B2 (in), EQ (out)

## COMP4B
designator U?
4-Bit Identity Comparator, Bus Version; SubClass: COMP; PortSize: 4; ArchiveName: GENERIC; VHDLIB_SIM: GENERIC_LIB; Published: 29-Jan-2004; Publisher: Altium Limited; LastRevisionNo: 1.00.00; HelpURL: CR0118 FPGA Generic Library Guide.pdf#page=151; ComponentLink1URL: CR0129 FPGA Comparator Resource Usage.pdf#page=6; ComponentLink1Description: Core &Resource Usage; FunctionalClass: Comparator; PortStyle: Bus Version
pins: A[3..0] (in), B[3..0] (in), EQ (out)

## COMP4S
designator U?
4-Bit Identity Comparator, Single Pin Version; XilinxEquivalent: COMP4; SubClass: COMP; PortSize: 4; ArchiveName: GENERIC; VHDLIB_SIM: GENERIC_LIB; Published: 29-Jan-2004; Publisher: Altium Limited; LastRevisionNo: 1.00.00; HelpURL: CR0118 FPGA Generic Library Guide.pdf#page=151; ComponentLink1URL: CR0129 FPGA Comparator Resource Usage.pdf#page=7; ComponentLink1Description: Core &Resource Usage; FunctionalClass: Comparator; PortStyle: Single Pin Version
pins: A0 (in), A1 (in), A2 (in), A3 (in), B0 (in), B1 (in), B2 (in), B3 (in), EQ (out)

## COMP5B
designator U?
5-Bit Identity Comparator, Bus Version; SubClass: COMP; PortSize: 5; ArchiveName: GENERIC; VHDLIB_SIM: GENERIC_LIB; Published: 29-Jan-2004; Publisher: Altium Limited; LastRevisionNo: 1.00.00; HelpURL: CR0118 FPGA Generic Library Guide.pdf#page=151; ComponentLink1URL: CR0129 FPGA Comparator Resource Usage.pdf#page=8; ComponentLink1Description: Core &Resource Usage; FunctionalClass: Comparator; PortStyle: Bus Version
pins: A[4..0] (in), B[4..0] (in), EQ (out)

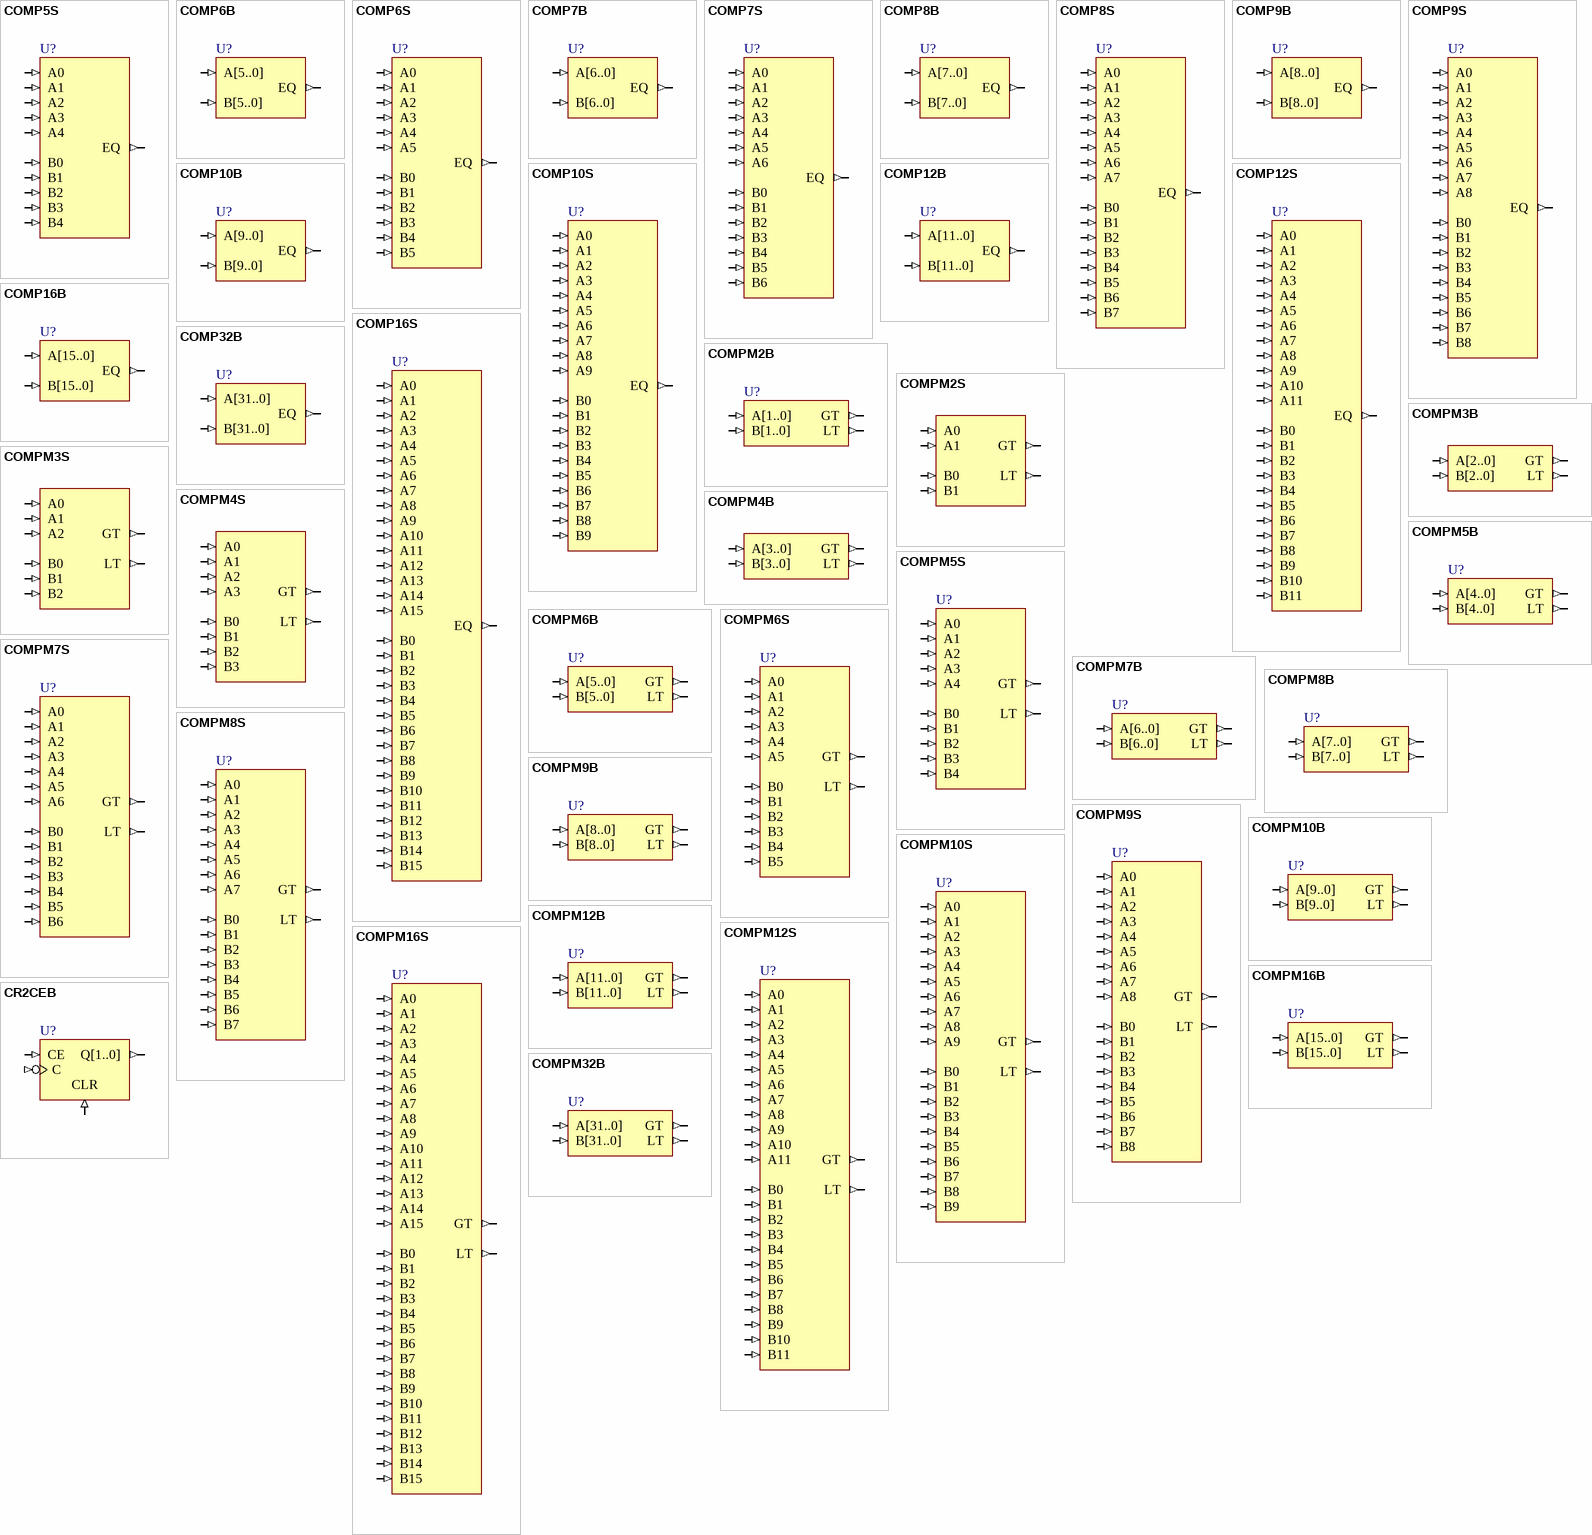
[diagram p8: symbols COMP5S to CR2CEB]

## COMP5S
designator U?
5-Bit Identity Comparator, Single Pin Version; SubClass: COMP; PortSize: 5; ArchiveName: GENERIC; VHDLIB_SIM: GENERIC_LIB; Published: 29-Jan-2004; Publisher: Altium Limited; LastRevisionNo: 1.00.00; HelpURL: CR0118 FPGA Generic Library Guide.pdf#page=151; ComponentLink1URL: CR0129 FPGA Comparator Resource Usage.pdf#page=9; ComponentLink1Description: Core &Resource Usage; FunctionalClass: Comparator; PortStyle: Single Pin Version
pins: A0 (in), A1 (in), A2 (in), A3 (in), A4 (in), B0 (in), B1 (in), B2 (in), B3 (in), B4 (in), EQ (out)

## COMP6B
designator U?
6-Bit Identity Comparator, Bus Version; SubClass: COMP; PortSize: 6; ArchiveName: GENERIC; VHDLIB_SIM: GENERIC_LIB; Published: 29-Jan-2004; Publisher: Altium Limited; LastRevisionNo: 1.00.00; HelpURL: CR0118 FPGA Generic Library Guide.pdf#page=151; ComponentLink1URL: CR0129 FPGA Comparator Resource Usage.pdf#page=10; ComponentLink1Description: Core &Resource Usage; FunctionalClass: Comparator; PortStyle: Bus Version
pins: A[5..0] (in), B[5..0] (in), EQ (out)

## COMP6S
designator U?
6-Bit Identity Comparator, Single Pin Version; SubClass: COMP; PortSize: 6; ArchiveName: GENERIC; VHDLIB_SIM: GENERIC_LIB; Published: 29-Jan-2004; Publisher: Altium Limited; LastRevisionNo: 1.00.00; HelpURL: CR0118 FPGA Generic Library Guide.pdf#page=151; ComponentLink1URL: CR0129 FPGA Comparator Resource Usage.pdf#page=11; ComponentLink1Description: Core &Resource Usage; FunctionalClass: Comparator; PortStyle: Single Pin Version
pins: A0 (in), A1 (in), A2 (in), A3 (in), A4 (in), A5 (in), B0 (in), B1 (in), B2 (in), B3 (in), B4 (in), B5 (in), EQ (out)

## COMP7B
designator U?
7-Bit Identity Comparator, Bus Version; SubClass: COMP; PortSize: 7; ArchiveName: GENERIC; VHDLIB_SIM: GENERIC_LIB; Published: 29-Jan-2004; Publisher: Altium Limited; LastRevisionNo: 1.00.00; HelpURL: CR0118 FPGA Generic Library Guide.pdf#page=151; ComponentLink1URL: CR0129 FPGA Comparator Resource Usage.pdf#page=12; ComponentLink1Description: Core &Resource Usage; FunctionalClass: Comparator; PortStyle: Bus Version
pins: A[6..0] (in), B[6..0] (in), EQ (out)

## COMP7S
designator U?
7-Bit Identity Comparator, Single Pin Version; SubClass: COMP; PortSize: 7; ArchiveName: GENERIC; VHDLIB_SIM: GENERIC_LIB; Published: 29-Jan-2004; Publisher: Altium Limited; LastRevisionNo: 1.00.00; HelpURL: CR0118 FPGA Generic Library Guide.pdf#page=151; ComponentLink1URL: CR0129 FPGA Comparator Resource Usage.pdf#page=13; ComponentLink1Description: Core &Resource Usage; FunctionalClass: Comparator; PortStyle: Single Pin Version
pins: A0 (in), A1 (in), A2 (in), A3 (in), A4 (in), A5 (in), A6 (in), B0 (in), B1 (in), B2 (in), B3 (in), B4 (in), B5 (in), B6 (in), EQ (out)

## COMP8B
designator U?
8-Bit Identity Comparator, Bus Version; XilinxEquivalent: COMP8; SubClass: COMP; PortSize: 8; ArchiveName: GENERIC; VHDLIB_SIM: GENERIC_LIB; Published: 29-Jan-2004; Publisher: Altium Limited; LastRevisionNo: 1.00.00; HelpURL: CR0118 FPGA Generic Library Guide.pdf#page=151; ComponentLink1URL: CR0129 FPGA Comparator Resource Usage.pdf#page=14; ComponentLink1Description: Core &Resource Usage; FunctionalClass: Comparator; PortStyle: Bus Version
pins: A[7..0] (in), B[7..0] (in), EQ (out)

## COMP8S
designator U?
8-Bit Identity Comparator, Single Pin Version; SubClass: COMP; PortSize: 8; ArchiveName: GENERIC; VHDLIB_SIM: GENERIC_LIB; Published: 29-Jan-2004; Publisher: Altium Limited; LastRevisionNo: 1.00.00; HelpURL: CR0118 FPGA Generic Library Guide.pdf#page=151; ComponentLink1URL: CR0129 FPGA Comparator Resource Usage.pdf#page=15; ComponentLink1Description: Core &Resource Usage; FunctionalClass: Comparator; PortStyle: Single Pin Version
pins: A0 (in), A1 (in), A2 (in), A3 (in), A4 (in), A5 (in), A6 (in), A7 (in), B0 (in), B1 (in), B2 (in), B3 (in), B4 (in), B5 (in), B6 (in), B7 (in), EQ (out)

## COMP9B
designator U?
9-Bit Identity Comparator, Bus Version; SubClass: COMP; PortSize: 9; ArchiveName: GENERIC; VHDLIB_SIM: GENERIC_LIB; Published: 29-Jan-2004; Publisher: Altium Limited; LastRevisionNo: 1.00.00; HelpURL: CR0118 FPGA Generic Library Guide.pdf#page=151; ComponentLink1URL: CR0129 FPGA Comparator Resource Usage.pdf#page=16; ComponentLink1Description: Core &Resource Usage; FunctionalClass: Comparator; PortStyle: Bus Version
pins: A[8..0] (in), B[8..0] (in), EQ (out)

## COMP9S
designator U?
9-Bit Identity Comparator, Single Pin Version; SubClass: COMP; PortSize: 9; ArchiveName: GENERIC; VHDLIB_SIM: GENERIC_LIB; Published: 29-Jan-2004; Publisher: Altium Limited; LastRevisionNo: 1.00.00; HelpURL: CR0118 FPGA Generic Library Guide.pdf#page=151; ComponentLink1URL: CR0129 FPGA Comparator Resource Usage.pdf#page=17; ComponentLink1Description: Core &Resource Usage; FunctionalClass: Comparator; PortStyle: Single Pin Version
pins: A0 (in), A1 (in), A2 (in), A3 (in), A4 (in), A5 (in), A6 (in), A7 (in), A8 (in), B0 (in), B1 (in), B2 (in), B3 (in), B4 (in), B5 (in), B6 (in), B7 (in), B8 (in), EQ (out)

## COMP10B
designator U?
10-Bit Identity Comparator, Bus Version; SubClass: COMP; PortSize: 10; ArchiveName: GENERIC; VHDLIB_SIM: GENERIC_LIB; Published: 29-Jan-2004; Publisher: Altium Limited; LastRevisionNo: 1.00.00; HelpURL: CR0118 FPGA Generic Library Guide.pdf#page=151; ComponentLink1URL: CR0129 FPGA Comparator Resource Usage.pdf#page=18; ComponentLink1Description: Core &Resource Usage; FunctionalClass: Comparator; PortStyle: Bus Version
pins: A[9..0] (in), B[9..0] (in), EQ (out)

## COMP10S
designator U?
10-Bit Identity Comparator, Single Pin Version; SubClass: COMP; PortSize: 10; ArchiveName: GENERIC; VHDLIB_SIM: GENERIC_LIB; Published: 29-Jan-2004; Publisher: Altium Limited; LastRevisionNo: 1.00.00; HelpURL: CR0118 FPGA Generic Library Guide.pdf#page=151; ComponentLink1URL: CR0129 FPGA Comparator Resource Usage.pdf#page=19; ComponentLink1Description: Core &Resource Usage; FunctionalClass: Comparator; PortStyle: Single Pin Version
pins: A0 (in), A1 (in), A2 (in), A3 (in), A4 (in), A5 (in), A6 (in), A7 (in), A8 (in), A9 (in), B0 (in), B1 (in), B2 (in), B3 (in), B4 (in), B5 (in), B6 (in), B7 (in), B8 (in), B9 (in), EQ (out)

## COMP12B
designator U?
12-Bit Identity Comparator, Bus Version; SubClass: COMP; PortSize: 12; ArchiveName: GENERIC; VHDLIB_SIM: GENERIC_LIB; Published: 29-Jan-2004; Publisher: Altium Limited; LastRevisionNo: 1.00.00; HelpURL: CR0118 FPGA Generic Library Guide.pdf#page=151; ComponentLink1URL: CR0129 FPGA Comparator Resource Usage.pdf#page=20; ComponentLink1Description: Core &Resource Usage; FunctionalClass: Comparator; PortStyle: Bus Version
pins: A[11..0] (in), B[11..0] (in), EQ (out)

## COMP12S
designator U?
12-Bit Identity Comparator, Single Pin Version; SubClass: COMP; PortSize: 12; ArchiveName: GENERIC; VHDLIB_SIM: GENERIC_LIB; Published: 29-Jan-2004; Publisher: Altium Limited; LastRevisionNo: 1.00.00; HelpURL: CR0118 FPGA Generic Library Guide.pdf#page=151; ComponentLink1URL: CR0129 FPGA Comparator Resource Usage.pdf#page=21; ComponentLink1Description: Core &Resource Usage; FunctionalClass: Comparator; PortStyle: Single Pin Version
pins: A0 (in), A1 (in), A2 (in), A3 (in), A4 (in), A5 (in), A6 (in), A7 (in), A8 (in), A9 (in), A10 (in), A11 (in), B0 (in), B1 (in), B2 (in), B3 (in), B4 (in), B5 (in), B6 (in), B7 (in), B8 (in), B9 (in), B10 (in), B11 (in), EQ (out)

## COMP16B
designator U?
16-Bit Identity Comparator, Bus Version; XilinxEquivalent: COMP16; SubClass: COMP; PortSize: 16; ArchiveName: GENERIC; VHDLIB_SIM: GENERIC_LIB; Published: 29-Jan-2004; Publisher: Altium Limited; LastRevisionNo: 1.00.00; HelpURL: CR0118 FPGA Generic Library Guide.pdf#page=151; ComponentLink1URL: CR0129 FPGA Comparator Resource Usage.pdf#page=22; ComponentLink1Description: Core &Resource Usage; FunctionalClass: Comparator; PortStyle: Bus Version
pins: A[15..0] (in), B[15..0] (in), EQ (out)

## COMP16S
designator U?
16-Bit Identity Comparator, Single Pin Version; SubClass: COMP; PortSize: 16; ArchiveName: GENERIC; VHDLIB_SIM: GENERIC_LIB; Published: 29-Jan-2004; Publisher: Altium Limited; LastRevisionNo: 1.00.00; HelpURL: CR0118 FPGA Generic Library Guide.pdf#page=151; ComponentLink1URL: CR0129 FPGA Comparator Resource Usage.pdf#page=23; ComponentLink1Description: Core &Resource Usage; FunctionalClass: Comparator; PortStyle: Single Pin Version
pins: A0 (in), A1 (in), A2 (in), A3 (in), A4 (in), A5 (in), A6 (in), A7 (in), A8 (in), A9 (in), A10 (in), A11 (in), A12 (in), A13 (in), A14 (in), A15 (in), B0 (in), B1 (in), B2 (in), B3 (in), B4 (in), B5 (in), B6 (in), B7 (in), B8 (in), B9 (in), B10 (in), B11 (in), B12 (in), B13 (in), B14 (in), B15 (in), EQ (out)

## COMP32B
designator U?
32-Bit Identity Comparator, Bus Version; SubClass: COMP; PortSize: 32; ArchiveName: GENERIC; VHDLIB_SIM: GENERIC_LIB; Published: 31-May-2004; Publisher: Altium Limited; LastRevisionNo: 1.00.00; HelpURL: CR0118 FPGA Generic Library Guide.pdf#page=151; ComponentLink1URL: CR0129 FPGA Comparator Resource Usage.pdf#page=24; ComponentLink1Description: Core &Resource Usage; FunctionalClass: Comparator; PortStyle: Bus Version
pins: A[31..0] (in), B[31..0] (in), EQ (out)

## COMPM2B
designator U?
2-Bit Magnitude Comparator, Bus Version; SubClass: COMPM; PortSize: 2; ArchiveName: GENERIC; VHDLIB_SIM: GENERIC_LIB; Published: 29-Jan-2004; Publisher: Altium Limited; LastRevisionNo: 1.00.00; HelpURL: CR0118 FPGA Generic Library Guide.pdf#page=153; ComponentLink1URL: CR0129 FPGA Comparator Resource Usage.pdf#page=25; ComponentLink1Description: Core &Resource Usage; FunctionalClass: Comparator; PortStyle: Bus Version
pins: A[1..0] (in), B[1..0] (in), GT (out), LT (out)

## COMPM2S
designator U?
2-Bit Magnitude Comparator, Single Pin Version; XilinxEquivalent: COMPM2; SubClass: COMPM; PortSize: 2; ArchiveName: GENERIC; VHDLIB_SIM: GENERIC_LIB; Published: 29-Jan-2004; Publisher: Altium Limited; LastRevisionNo: 1.00.00; HelpURL: CR0118 FPGA Generic Library Guide.pdf#page=153; ComponentLink1URL: CR0129 FPGA Comparator Resource Usage.pdf#page=26; ComponentLink1Description: Core &Resource Usage; FunctionalClass: Comparator; PortStyle: Single Pin Version
pins: A0 (in), A1 (in), B0 (in), B1 (in), GT (out), LT (out)

## COMPM3B
designator U?
3-Bit Magnitude Comparator, Bus Version; SubClass: COMPM; PortSize: 3; ArchiveName: GENERIC; VHDLIB_SIM: GENERIC_LIB; Published: 29-Jan-2004; Publisher: Altium Limited; LastRevisionNo: 1.00.00; HelpURL: CR0118 FPGA Generic Library Guide.pdf#page=153; ComponentLink1URL: CR0129 FPGA Comparator Resource Usage.pdf#page=27; ComponentLink1Description: Core &Resource Usage; FunctionalClass: Comparator; PortStyle: Bus Version
pins: A[2..0] (in), B[2..0] (in), GT (out), LT (out)

## COMPM3S
designator U?
3-Bit Magnitude Comparator, Single Pin Version; SubClass: COMPM; PortSize: 3; ArchiveName: GENERIC; VHDLIB_SIM: GENERIC_LIB; Published: 29-Jan-2004; Publisher: Altium Limited; LastRevisionNo: 1.00.00; HelpURL: CR0118 FPGA Generic Library Guide.pdf#page=153; ComponentLink1URL: CR0129 FPGA Comparator Resource Usage.pdf#page=28; ComponentLink1Description: Core &Resource Usage; FunctionalClass: Comparator; PortStyle: Single Pin Version
pins: A0 (in), A1 (in), A2 (in), B0 (in), B1 (in), B2 (in), GT (out), LT (out)

## COMPM4B
designator U?
4-Bit Magnitude Comparator, Bus Version; SubClass: COMPM; PortSize: 4; ArchiveName: GENERIC; VHDLIB_SIM: GENERIC_LIB; Published: 29-Jan-2004; Publisher: Altium Limited; LastRevisionNo: 1.00.00; HelpURL: CR0118 FPGA Generic Library Guide.pdf#page=153; ComponentLink1URL: CR0129 FPGA Comparator Resource Usage.pdf#page=29; ComponentLink1Description: Core &Resource Usage; FunctionalClass: Comparator; PortStyle: Bus Version
pins: A[3..0] (in), B[3..0] (in), GT (out), LT (out)

## COMPM4S
designator U?
4-Bit Magnitude Comparator, Single Pin Version; XilinxEquivalent: COMPM4; SubClass: COMPM; PortSize: 4; ArchiveName: GENERIC; VHDLIB_SIM: GENERIC_LIB; Published: 29-Jan-2004; Publisher: Altium Limited; LastRevisionNo: 1.00.00; HelpURL: CR0118 FPGA Generic Library Guide.pdf#page=153; ComponentLink1URL: CR0129 FPGA Comparator Resource Usage.pdf#page=30; ComponentLink1Description: Core &Resource Usage; FunctionalClass: Comparator; PortStyle: Single Pin Version
pins: A0 (in), A1 (in), A2 (in), A3 (in), B0 (in), B1 (in), B2 (in), B3 (in), GT (out), LT (out)

## COMPM5B
designator U?
5-Bit Magnitude Comparator, Bus Version; SubClass: COMPM; PortSize: 5; ArchiveName: GENERIC; VHDLIB_SIM: GENERIC_LIB; Published: 29-Jan-2004; Publisher: Altium Limited; LastRevisionNo: 1.00.00; HelpURL: CR0118 FPGA Generic Library Guide.pdf#page=153; ComponentLink1URL: CR0129 FPGA Comparator Resource Usage.pdf#page=31; ComponentLink1Description: Core &Resource Usage; FunctionalClass: Comparator; PortStyle: Bus Version
pins: A[4..0] (in), B[4..0] (in), GT (out), LT (out)

## COMPM5S
designator U?
5-Bit Magnitude Comparator, Single Pin Version; SubClass: COMPM; PortSize: 5; ArchiveName: GENERIC; VHDLIB_SIM: GENERIC_LIB; Published: 29-Jan-2004; Publisher: Altium Limited; LastRevisionNo: 1.00.00; HelpURL: CR0118 FPGA Generic Library Guide.pdf#page=153; ComponentLink1URL: CR0129 FPGA Comparator Resource Usage.pdf#page=32; ComponentLink1Description: Core &Resource Usage; FunctionalClass: Comparator; PortStyle: Single Pin Version
pins: A0 (in), A1 (in), A2 (in), A3 (in), A4 (in), B0 (in), B1 (in), B2 (in), B3 (in), B4 (in), GT (out), LT (out)